# Altium footprint library MyLib.PcbLib: 92 footprints (part 2 of 6)
Each footprint in its own frame and in the unit in brackets; x right, y up, seen from the top. Pads: shape width x height; smd on the part's side, far side on the other; paste and mask are expansions set on the pad; w line width, h text height; cw(c..) or ccw(c..) is an arc to the next point about the centre after c.
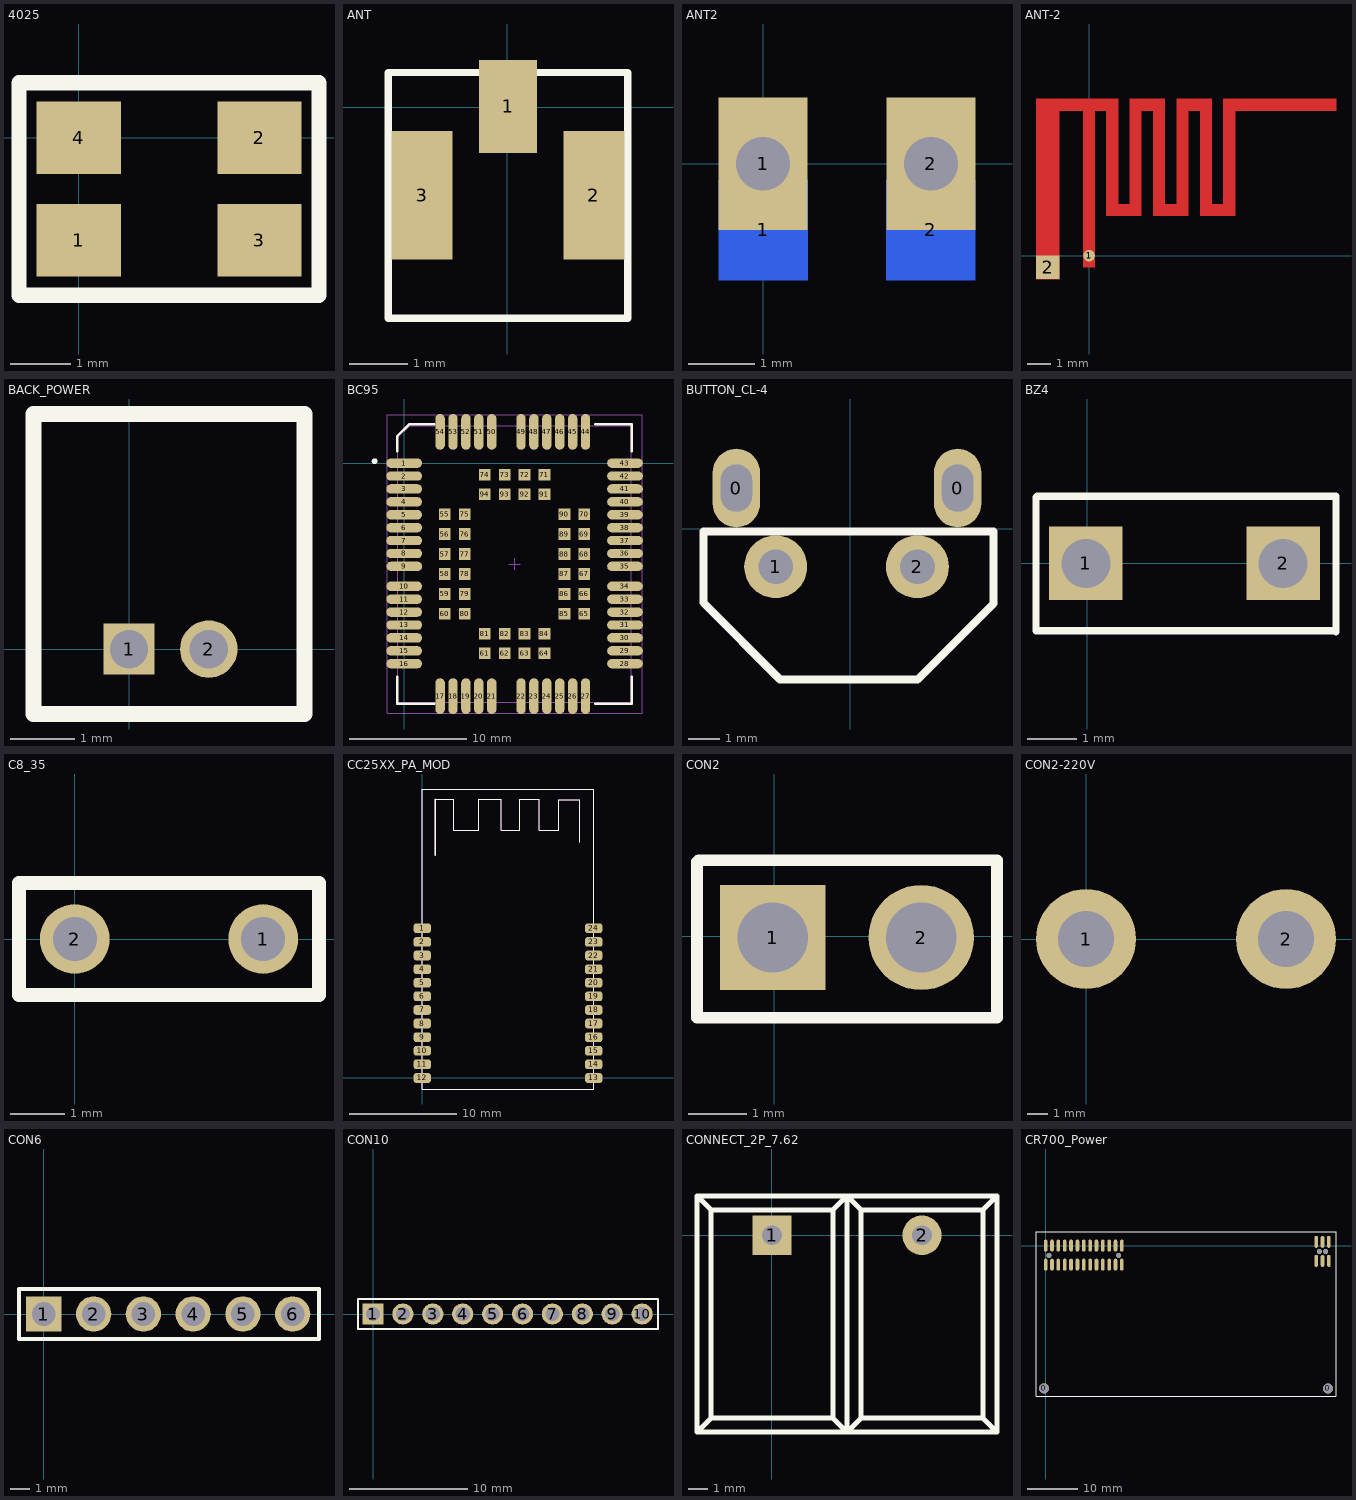
[diagram p1: the footprints below, top view; thin cyan lines are the x and y axes]

## 4025 [mm]
pads (4):
  rect 1.4x1.2 smd: 1(0,-1.7) 2(3,0) 3(3,-1.7) 4(0,0)
Top Overlay:
  lines w0.254: -0.991,-2.616 3.988,-2.616 3.988,0.914 -0.991,0.914 -0.991,-2.616

## ANT [mm]
pads (3):
  rect 1x1.6 smd: 1(0.017,0.01)
  rect 1.05x2.2 smd: 2(1.492,-1.515)
  rect 1.05x2.2 smd mask+0.102: 3(-1.458,-1.515)
Top Overlay:
  lines w0.125: -2.041,-3.623 0.017,-3.623 2.074,-3.623 2.074,-1.515 2.074,0.594 0.017,0.594 -2.041,0.594 -2.041,-1.515 -2.041,-3.623
3D body: height 1.2, standoff 0, extent -1.059,-2.532 1.008,-0.465
3D body: height 0.3, standoff 0, extent -1.524,-3.048 1.524,0

## ANT2 [mil]
pads (4):
  rect 53x60 smd far side: 1(0,-39.37) 2(100,-39.37)
  rect 53x78.74 hole 32: 1(0,0) 2(100,0)

## ANT-2 [mm]
pads (2):
  round 0.5 smd: 1(-0.014,0.012)
  rect 1x1 smd: 2(-1.774,-0.488)
Top Layer:
  region: -1.279,6.708 -2.279,6.708 -2.279,-0.992 -1.279,-0.992
  region: 1.221,6.708 -1.279,6.708 -1.279,6.208 0.721,6.208 0.721,1.708 1.221,1.708
  region: 0.237,6.212 -0.263,6.212 -0.263,-0.492 0.237,-0.492
  region: 2.221,6.708 1.721,6.708 1.721,1.708 2.221,1.708
  region: 1.721,2.208 1.221,2.208 1.221,1.708 1.721,1.708
  region: 3.221,6.708 2.721,6.708 2.721,1.708 3.221,1.708
  region: 2.721,6.708 2.221,6.708 2.221,6.208 2.721,6.208
  region: 4.221,6.708 3.721,6.708 3.721,1.708 4.221,1.708
  region: 3.721,2.208 3.221,2.208 3.221,1.708 3.721,1.708
  region: 4.721,6.708 4.221,6.708 4.221,6.208 4.721,6.208
  region: 5.221,6.708 4.721,6.708 4.721,1.708 5.221,1.708
  region: 6.221,6.708 5.721,6.708 5.721,1.708 6.221,1.708
  region: 5.221,2.208 5.221,1.708 5.721,1.708 5.721,2.208
  region: 6.221,6.708 6.221,6.208 10.525,6.208 10.525,6.708

## BACK_POWER [mm]
pads (2):
  rect 0.8x0.8 hole 0.6: 1(0,0)
  round 0.9 hole 0.6: 2(1.25,0)
Top Overlay:
  lines w0.254: -1.499,-1.016 -1.499,3.684 2.751,3.684 2.751,-1.016 -1.499,-1.016

## BC95 [mm] "LCC, 58-Pins, Body 20.0x23.8mm (max), Pitch 1.10mm, IPC Medium Density"
height 2.2
pads (94):
  oval 3.05x0.8 smd: 1(-0.013,0) 2(-0.013,-1.1) 3(-0.013,-2.2) 4(-0.013,-3.3) 5(-0.013,-4.4) 6(-0.013,-5.5) 7(-0.013,-6.6) 8(-0.013,-7.7) 9(0.002,-8.8) 10(-0.013,-10.5) 11(-0.013,-11.6) 12(-0.013,-12.7) 13(-0.013,-13.8) 14(-0.013,-14.9) 15(-0.013,-16) 16(-0.013,-17.1) 28(18.813,-17.1) 29(18.813,-16) 30(18.813,-14.9) 31(18.813,-13.8) 32(18.813,-12.7) 33(18.813,-11.6) 34(18.813,-10.5) 35(18.813,-8.8) 36(18.813,-7.7) 37(18.813,-6.6) 38(18.813,-5.5) 39(18.813,-4.4) 40(18.813,-3.3) 41(18.813,-2.2) 42(18.813,-1.1) 43(18.813,0)
  oval 0.8x3.05 smd: 17(3.05,-19.863) 18(4.15,-19.863) 19(5.25,-19.863) 20(6.35,-19.863) 21(7.45,-19.863) 22(9.95,-19.863) 23(11.05,-19.863) 24(12.15,-19.863) 25(13.25,-19.863) 26(14.35,-19.863) 27(15.45,-19.863) 44(15.45,2.663) 45(14.35,2.663) 46(13.25,2.663) 47(12.15,2.663) 48(11.05,2.663) 49(9.95,2.663) 50(7.45,2.663) 51(6.35,2.663) 52(5.25,2.663) 53(4.15,2.663) 54(3.05,2.663)
  rect 1x1 smd: 55(3.45,-4.35) 56(3.45,-6.05) 57(3.45,-7.75) 58(3.45,-9.45) 59(3.45,-11.15) 60(3.45,-12.85) 61(6.85,-16.22) 62(8.55,-16.22) 63(10.25,-16.22) 64(11.95,-16.22) 65(15.35,-12.85) 66(15.35,-11.15) 67(15.35,-9.45) 68(15.35,-7.75) 69(15.35,-6.05) 70(15.35,-4.35) 71(11.95,-0.98) 72(10.25,-0.98) 73(8.55,-0.98) 74(6.85,-0.98) 75(5.15,-4.35) 76(5.15,-6.05) 77(5.15,-7.75) 78(5.15,-9.45) 79(5.15,-11.15) 80(5.15,-12.85) 81(6.85,-14.55) 82(8.55,-14.55) 83(10.25,-14.55) 84(11.95,-14.55) 85(13.65,-12.85) 86(13.65,-11.15) 87(13.65,-9.45) 88(13.65,-7.75) 89(13.65,-6.05) 90(13.65,-4.35) 91(11.95,-2.65) 92(10.25,-2.65) 93(8.55,-2.65) 94(6.85,-2.65)
Top Overlay:
  circle w0.25: c-2.536,0.163 r0.125
  lines w0.2: -0.6,-18.2 -0.6,-20.5 2.55,-20.5 ; -0.6,1 -0.6,2.3 0.4,3.3 2.55,3.3 ; 16.25,-20.5 19.4,-20.5 19.4,-18.2 ; 16.25,3.3 19.4,3.3 19.4,1
Mechanical 13:
  lines w0.1: -0.55,-20.4 19.35,-20.4 19.35,3.2 0.45,3.2 -0.55,2.2 -0.55,-20.4
Mechanical 15:
  lines w0.1: 8.9,-8.6 9.9,-8.6 ; 9.4,-9.1 9.4,-8.1 ; -1.475,-21.325 20.275,-21.325 20.275,4.125 -1.475,4.125 -1.475,-21.325
3D body: height 2.2, standoff 0, extent -0.5,-20.5 19.4,3.1

## BUTTON_CL-4 [mm] "侧立式按键4脚"
pads (4):
  oval 1.5x2.5 hole 1 slot 1.5 at 90 deg: 0(-3.623,1.3) 0(3.402,1.3)
  round 2 hole 1.1: 1(-2.373,-1.2) 2(2.127,-1.2)
Top Overlay:
  lines w0.254: -4.674,-2.337 -4.674,-0.076 4.547,-0.076 4.547,-2.362 2.134,-4.775 -2.235,-4.775 -4.674,-2.337

## BZ4 [mm]
pads (2):
  rect 1.5x1.5 hole 1: 1(-0.025,0) 2(4,0)
Top Overlay:
  lines w0.152: -1.041,1.346 -1.041,-1.372 5.08,-1.372 ; -1.016,1.372 5.08,1.372 5.08,-1.397

## C8_35 [mm]
pads (2):
  round 1.27 hole 0.8: 1(3.429,0) 2(0,0)
Top Overlay:
  lines w0.254: -1.016,-1.016 4.445,-1.016 4.445,1.016 -1.016,1.016 -1.016,-1.016
3D body "C8_35_2.STEP": height 5, standoff -3, extent -2.273,-0.406 5.727,14.994

## CC25XX_PA_MOD [mm] "CC2530ZIGBEE模块16*28mm"
pads (24):
  rrect50% 1.6x0.9 smd: 1(0,13.97) 2(0,12.7) 3(0,11.43) 4(0,10.16) 5(0,8.89) 6(0,7.62) 7(0,6.35) 8(0,5.08) 9(0,3.81) 10(0,2.54) 11(0,1.27) 12(0,0) 13(16,0) 14(16,1.27) 15(16,2.54) 16(16,3.81) 17(16,5.08) 18(16,6.35) 19(16,7.62) 20(16,8.89) 21(16,10.16) 22(16,11.43) 23(16,12.7) 24(16,13.97)
Top Overlay:
  lines w0.1: 1.194,26.035 2.946,26.035 2.946,23.139 5.283,23.139 5.283,26.01 7.366,26.01 7.366,23.139 9.119,23.139 9.119,26.01 10.897,26.01 10.897,23.139 12.725,23.139 12.725,25.959 14.681,25.959 14.681,21.996 ; 0,-1.03 0,26.975 16,26.975 16,-1.03 0,-1.03
  lines w0.15: 1.194,20.803 1.194,26.035
Mechanical 13:
  lines w0.1: 1.194,26.035 2.946,26.035 2.946,23.139 5.283,23.139 5.283,26.01 7.366,26.01 7.366,23.139 9.119,23.139 9.119,26.01 10.897,26.01 10.897,23.139 12.725,23.139 12.725,25.959 14.681,25.959 14.681,21.996 ; 0,-1.03 0,26.97 16,26.97 16,-1.03 0,-1.03
  lines w0.15: 1.194,20.803 1.194,26.035
  text ".Designator" at 3.861,11.151 h2

## CON2 [mm]
pads (2):
  rect 1.8x1.8 hole 1.2: 1(-0.025,-0.025)
  round 1.8 hole 1.2: 2(2.515,-0.025)
Top Overlay:
  lines w0.2: -1.321,-1.397 -1.321,1.27 ; -1.295,-1.397 3.81,-1.397 3.81,1.27 ; -1.295,1.295 3.81,1.295

## CON2-220V [mm]
pads (2):
  round 5 hole 2.8: 1(0,0) 2(10,0)

## CON6 [mm]
pads (6):
  rect 1.8x1.8 hole 1.2: 1(0,0)
  round 1.8 hole 1.2: 2(2.54,0) 3(5.08,0) 4(7.62,0) 5(10.16,0) 6(12.7,0)
Top Overlay:
  lines w0.2: 14.021,1.27 -1.27,1.27 -1.27,-1.27 14.046,-1.27 14.046,1.27

## CON10 [mm]
pads (10):
  rect 1.8x1.8 hole 1.2: 1(-0.025,0)
  round 1.8 hole 1.2: 2(2.515,0) 3(5.055,0) 4(7.595,0) 5(10.135,0) 6(12.675,0) 7(15.215,0) 8(17.755,0) 9(20.295,0) 10(22.835,0)
Top Overlay:
  lines w0.2: 13.995,-1.27 24.181,-1.27 24.181,1.245 24.155,1.27 13.995,1.27 -1.295,1.27 -1.295,-1.27 14.021,-1.27

## CONNECT_2P_7.62 [mm]
pads (2):
  rect 2x2 hole 1: 1(0,0)
  round 2 hole 1: 2(7.62,0)
Top Overlay:
  lines w0.254: -3.81,-10 -3.81,2 ; -3.81,-10 11.43,-10 ; -3.81,-10 -3.099,-9.289 ; -3.81,2 11.43,2 ; -3.81,2 -3.099,1.289 ; -3.099,-9.289 -3.099,1.289 ; -3.099,-9.289 3.099,-9.289 ; -3.099,1.289 3.099,1.289 ; 3.099,-9.289 3.099,1.289 ; 3.099,-9.289 3.81,-10 ; 3.099,1.289 3.81,2 ; 3.81,-10 3.81,2 ; 3.81,-10 4.521,-9.289 ; 3.81,2 4.521,1.289 ; 4.521,-9.289 10.719,-9.289 ; 4.521,-9.289 4.521,1.289 ; 4.521,1.289 10.719,1.289 ; 10.719,-9.289 10.719,1.289 ; 10.719,-9.289 11.43,-10 ; 10.719,1.289 11.43,2 ; 11.43,-10 11.43,2

## CR700_Power [mm]
pads (38):
  round 2 hole 2: 0(-0.33,-28.55) 0(56.464,-28.575)
  oval 0.74x2.4 smd: 1(0,0) 2(1.27,0) 3(2.54,0) 4(3.81,0) 5(5.08,0) 6(6.35,0) 7(7.62,0) 8(8.89,0) 9(10.16,0) 10(11.43,0) 11(12.7,0) 12(13.97,0) 13(15.24,0) 14(15.24,-3.81) 15(13.97,-3.81) 16(12.7,-3.81) 17(11.43,-3.81) 18(10.16,-3.81) 19(8.89,-3.81) 20(7.62,-3.81) 21(6.35,-3.81) 22(5.08,-3.81) 23(3.81,-3.81) 24(2.54,-3.81) 25(1.27,-3.81) 26(0,-3.81) 27(54.102,0.75) 28(55.372,0.75) 29(56.642,0.75) 30(56.642,-3.06) 31(55.372,-3.06) 32(54.102,-3.06)
  round 1 hole 1: 11(56.007,-1.188) 33(0.635,-1.95) 34(14.605,-1.95) 35(54.737,-1.188)
Top Overlay:
  lines w0.127: 58.05,-30.181 -1.93,-30.181 -1.93,2.819 58.07,2.819 58.07,-30.181